# Altium footprint library 0.10uF_0402_Murata.PcbLib: 4 footprints
Each footprint in its own frame and in the unit in brackets; x right, y up, seen from the top. Pads: shape width x height; smd on the part's side, far side on the other; paste and mask are expansions set on the pad; w line width, h text height; cw(c..) or ccw(c..) is an arc to the next point about the centre after c.
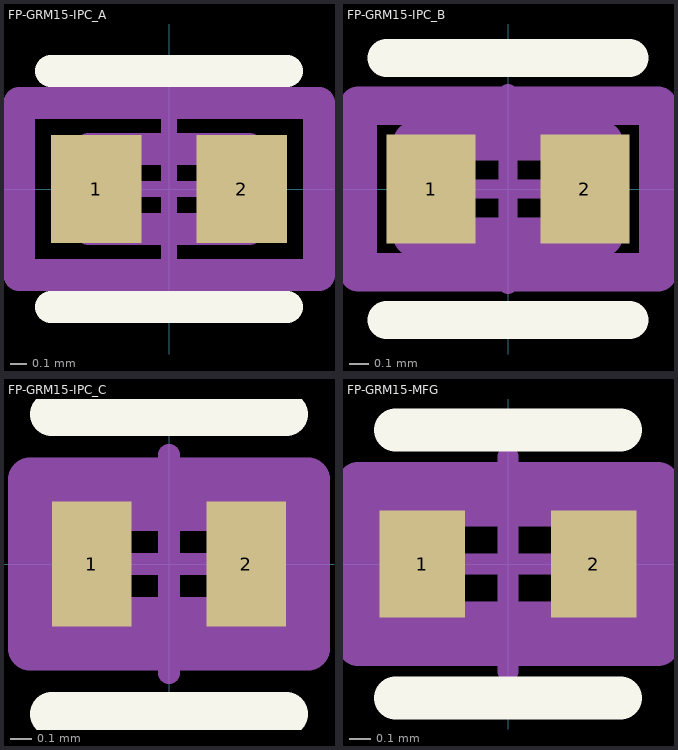
[diagram p0: the footprints below, top view; thin cyan lines are the x and y axes]

## FP-GRM15-IPC_A [mm]
pads (2):
  rect 0.565x0.672 smd paste+0 mask+0: 1(-0.454,0) 2(0.454,0)
Top Overlay:
  lines w0.2: -0.736,-0.736 0.736,-0.736 ; -0.736,0.736 0.736,0.736
Top Assembly:
  lines w0.2: -0.936,-0.536 0.936,-0.536 0.936,0.536 -0.936,0.536 -0.936,-0.536
  text ".Designator" at 0,0.188 h1
Top 3D Body:
  lines w0.2: -0.5,-0.25 0.5,-0.25 0.5,0.25 -0.5,0.25 -0.5,-0.25
Top Courtyard:
  lines w0.2: -0.936,-0.536 0.936,-0.536 0.936,0.536 -0.936,0.536 -0.936,-0.536
Top Component Center:
  lines w0.1: -0.5,0 0.5,0 ; 0,-0.5 0,0.5
3D body "Cap_Murata_GRM155R71C104KA88D_eec.STEP": height 0.25, standoff 0, extent -0.936,-0.536 0.936,0.536

## FP-GRM15-IPC_B [mm]
pads (2):
  rect 0.465x0.572 smd paste+0 mask+0: 1(-0.404,0) 2(0.404,0)
Top Overlay:
  lines w0.2: -0.636,-0.686 0.636,-0.686 ; -0.636,0.686 0.636,0.686
Top Assembly:
  lines w0.2: -0.786,-0.436 0.786,-0.436 0.786,0.436 -0.786,0.436 -0.786,-0.436
  text ".Designator" at 0,0.188 h1
Top 3D Body:
  lines w0.2: -0.5,-0.25 0.5,-0.25 0.5,0.25 -0.5,0.25 -0.5,-0.25
Top Courtyard:
  lines w0.2: -0.786,-0.436 0.786,-0.436 0.786,0.436 -0.786,0.436 -0.786,-0.436
Top Component Center:
  lines w0.1: -0.5,0 0.5,0 ; 0,-0.5 0,0.5
3D body "Cap_Murata_GRM155R71C104KA88D_eec.STEP": height 0.25, standoff 0, extent -0.786,-0.436 0.786,0.436

## FP-GRM15-IPC_C [mm]
pads (2):
  rect 0.365x0.572 smd paste+0 mask+0: 1(-0.354,0) 2(0.354,0)
Top Overlay:
  lines w0.2: -0.536,-0.686 0.536,-0.686 ; -0.536,0.686 0.536,0.686
Top Assembly:
  lines w0.2: -0.636,-0.386 0.636,-0.386 0.636,0.386 -0.636,0.386 -0.636,-0.386
  text ".Designator" at 0,0.188 h1
Top 3D Body:
  lines w0.2: -0.5,-0.25 0.5,-0.25 0.5,0.25 -0.5,0.25 -0.5,-0.25
Top Courtyard:
  lines w0.2: -0.636,-0.386 0.636,-0.386 0.636,0.386 -0.636,0.386 -0.636,-0.386
Top Component Center:
  lines w0.1: -0.5,0 0.5,0 ; 0,-0.5 0,0.5
3D body "Cap_Murata_GRM155R71C104KA88D_eec.STEP": height 0.25, standoff 0, extent -0.636,-0.386 0.636,0.386

## FP-GRM15-MFG [mm]
pads (2):
  rect 0.4x0.5 smd paste+0 mask+0: 1(-0.4,0) 2(0.4,0)
Top Overlay:
  lines w0.2: -0.525,-0.625 0.525,-0.625 ; -0.525,0.625 0.525,0.625
Top Assembly:
  lines w0.2: -0.7,-0.375 0.7,-0.375 0.7,0.375 -0.7,0.375 -0.7,-0.375
  text ".Designator" at 0,0.188 h1
Top 3D Body:
  lines w0.2: -0.525,-0.275 0.525,-0.275 0.525,0.275 -0.525,0.275 -0.525,-0.275
Top Courtyard:
  lines w0.2: -0.7,-0.375 0.7,-0.375 0.7,0.375 -0.7,0.375 -0.7,-0.375
Top Component Center:
  lines w0.1: -0.5,0 0.5,0 ; 0,-0.5 0,0.5
3D body "Cap_Murata_GRM155R71C104KA88D_eec.STEP": height 0.25, standoff 0, extent -0.7,-0.375 0.7,0.375